# Altium footprint library HgLib.PcbLib: 86 footprints (part 6 of 6)
Each footprint in its own frame and in the unit in brackets; x right, y up, seen from the top. Pads: shape width x height; smd on the part's side, far side on the other; paste and mask are expansions set on the pad; w line width, h text height; cw(c..) or ccw(c..) is an arc to the next point about the centre after c.
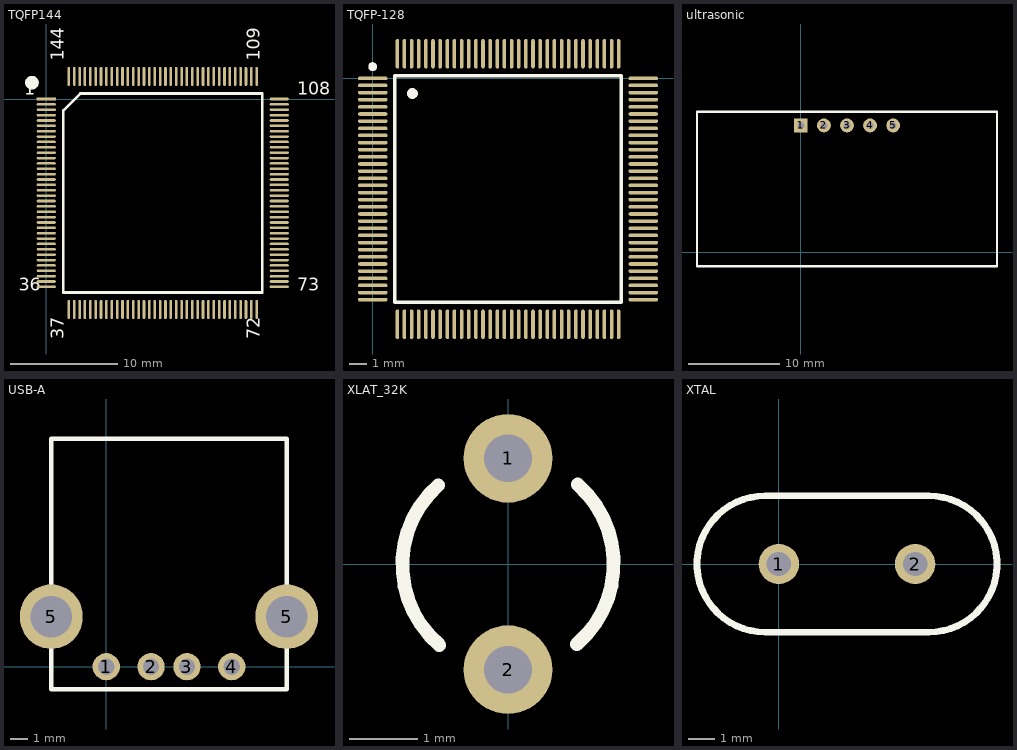
[diagram p5: the footprints below, top view; thin cyan lines are the x and y axes]

## TQFP144 [mil]
pads (144):
  rect 70x9.5 smd: 1(0,0)
  oval 70x9.5 smd: 2(0,-19.68) 3(0,-39.37) 4(0,-59.05) 5(0,-78.74) 6(0,-98.42) 7(0,-118.11) 8(0,-137.79) 9(0,-157.48) 10(0,-177.16) 11(0,-196.85) 12(0,-216.53) 13(0,-236.22) 14(0,-255.9) 15(0,-275.59) 16(0,-295.27) 17(0,-314.96) 18(0,-334.64) 19(0,-354.33) 20(0,-374.01) 21(0,-393.7) 22(0,-413.38) 23(0,-433.07) 24(0,-452.75) 25(0,-472.44) 26(0,-492.12) 27(0,-511.81) 28(0,-531.49) 29(0,-551.18) 30(0,-570.86) 31(0,-590.55) 32(0,-610.23) 33(0,-629.92) 34(0,-649.6) 35(0,-669.29) 36(0,-688.97) 73(854.33,-688.97) 74(854.33,-669.29) 75(854.33,-649.6) 76(854.33,-629.92) 77(854.33,-610.23) 78(854.33,-590.55) 79(854.33,-570.86) 80(854.33,-551.18) 81(854.33,-531.49) 82(854.33,-511.81) 83(854.33,-492.12) 84(854.33,-472.44) 85(854.33,-452.75) 86(854.33,-433.07) 87(854.33,-413.38) 88(854.33,-393.7) 89(854.33,-374.01) 90(854.33,-354.33) 91(854.33,-334.64) 92(854.33,-314.96) 93(854.33,-295.27) 94(854.33,-275.59) 95(854.33,-255.9) 96(854.33,-236.22) 97(854.33,-216.53) 98(854.33,-196.85) 99(854.33,-177.16) 100(854.33,-157.48) 101(854.33,-137.79) 102(854.33,-118.11) 103(854.33,-98.42) 104(854.33,-78.74) 105(854.33,-59.05) 106(854.33,-39.37) 107(854.33,-19.68) 108(854.33,0)
  oval 9.5x70 smd: 37(82.68,-771.65) 38(102.36,-771.65) 39(122.05,-771.65) 40(141.73,-771.65) 41(161.42,-771.65) 42(181.1,-771.65) 43(200.79,-771.65) 44(220.47,-771.65) 45(240.16,-771.65) 46(259.84,-771.65) 47(279.53,-771.65) 48(299.21,-771.65) 49(318.9,-771.65) 50(338.58,-771.65) 51(358.27,-771.65) 52(377.95,-771.65) 53(397.64,-771.65) 54(417.32,-771.65) 55(437.01,-771.65) 56(456.69,-771.65) 57(476.38,-771.65) 58(496.06,-771.65) 59(515.75,-771.65) 60(535.43,-771.65) 61(555.12,-771.65) 62(574.8,-771.65) 63(594.49,-771.65) 64(614.17,-771.65) 65(633.86,-771.65) 66(653.54,-771.65) 67(673.23,-771.65) 68(692.91,-771.65) 69(712.6,-771.65) 70(732.28,-771.65) 71(751.97,-771.65) 72(771.65,-771.65) 109(771.65,82.68) 110(751.97,82.68) 111(732.28,82.68) 112(712.6,82.68) 113(692.91,82.68) 114(673.23,82.68) 115(653.54,82.68) 116(633.86,82.68) 117(614.17,82.68) 118(594.49,82.68) 119(574.8,82.68) 120(555.12,82.68) 121(535.43,82.68) 122(515.75,82.68) 123(496.06,82.68) 124(476.38,82.68) 125(456.69,82.68) 126(437.01,82.68) 127(417.32,82.68) 128(397.64,82.68) 129(377.95,82.68) 130(358.27,82.68) 131(338.58,82.68) 132(318.9,82.68) 133(299.21,82.68) 134(279.53,82.68) 135(259.84,82.68) 136(240.16,82.68) 137(220.47,82.68) 138(200.79,82.68) 139(181.1,82.68) 140(161.42,82.68) 141(141.73,82.68) 142(122.05,82.68) 143(102.36,82.68) 144(82.68,82.68)
Top Overlay:
  circle w25: c-52.5,60 r12.5
  lines w10: 62.4,-709.25 62.4,-42.13 124.8,20.28 791.93,20.28 791.93,-709.25 62.4,-709.25
  text "72" at 800,-880 h80
  text "1" at -80,0 h80
  text "36" at -100,-720 h80
  text "37" at 80,-880 h80
  text "73" at 920,-720 h80
  text "108" at 920,0 h80
  text "109" at 800,140 h80
  text "144" at 80,140 h80

## TQFP-128 [mm] "TSQFP, 128-Leads, Body 16.0x16.0mm (max), Pitch 0.40mm, IPC Medium Density"
height 1.6
pads (128):
  oval 1.65x0.2 smd mask+0.051: 1(0,0) 2(0,-0.4) 3(0,-0.8) 4(0,-1.2) 5(0,-1.6) 6(0,-2) 7(0,-2.4) 8(0,-2.8) 9(0,-3.2) 10(0,-3.6) 11(0,-4) 12(0,-4.4) 13(0,-4.8) 14(0,-5.2) 15(0,-5.6) 16(0,-6) 17(0,-6.4) 18(0,-6.8) 19(0,-7.2) 20(0,-7.6) 21(0,-8) 22(0,-8.4) 23(0,-8.8) 24(0,-9.2) 25(0,-9.6) 26(0,-10) 27(0,-10.4) 28(0,-10.8) 29(0,-11.2) 30(0,-11.6) 31(0,-12) 32(0,-12.4) 65(15.15,-12.4) 66(15.15,-12) 67(15.15,-11.6) 68(15.15,-11.2) 69(15.15,-10.8) 70(15.15,-10.4) 71(15.15,-10) 72(15.15,-9.6) 73(15.15,-9.2) 74(15.15,-8.8) 75(15.15,-8.4) 76(15.15,-8) 77(15.15,-7.6) 78(15.15,-7.2) 79(15.15,-6.8) 80(15.15,-6.4) 81(15.15,-6) 82(15.15,-5.6) 83(15.15,-5.2) 84(15.15,-4.8) 85(15.15,-4.4) 86(15.15,-4) 87(15.15,-3.6) 88(15.15,-3.2) 89(15.15,-2.8) 90(15.15,-2.4) 91(15.15,-2) 92(15.15,-1.6) 93(15.15,-1.2) 94(15.15,-0.8) 95(15.15,-0.4) 96(15.15,0)
  oval 0.2x1.65 smd mask+0.051: 33(1.375,-13.775) 34(1.775,-13.775) 35(2.175,-13.775) 36(2.575,-13.775) 37(2.975,-13.775) 38(3.375,-13.775) 39(3.775,-13.775) 40(4.175,-13.775) 41(4.575,-13.775) 42(4.975,-13.775) 43(5.375,-13.775) 44(5.775,-13.775) 45(6.175,-13.775) 46(6.575,-13.775) 47(6.975,-13.775) 48(7.375,-13.775) 49(7.775,-13.775) 50(8.175,-13.775) 51(8.575,-13.775) 52(8.975,-13.775) 53(9.375,-13.775) 54(9.775,-13.775) 55(10.175,-13.775) 56(10.575,-13.775) 57(10.975,-13.775) 58(11.375,-13.775) 59(11.775,-13.775) 60(12.175,-13.775) 61(12.575,-13.775) 62(12.975,-13.775) 63(13.375,-13.775) 64(13.775,-13.775) 97(13.775,1.375) 98(13.375,1.375) 99(12.975,1.375) 100(12.575,1.375) 101(12.175,1.375) 102(11.775,1.375) 103(11.375,1.375) 104(10.975,1.375) 105(10.575,1.375) 106(10.175,1.375) 107(9.775,1.375) 108(9.375,1.375) 109(8.975,1.375) 110(8.575,1.375) 111(8.175,1.375) 112(7.775,1.375) 113(7.375,1.375) 114(6.975,1.375) 115(6.575,1.375) 116(6.175,1.375) 117(5.775,1.375) 118(5.375,1.375) 119(4.975,1.375) 120(4.575,1.375) 121(4.175,1.375) 122(3.775,1.375) 123(3.375,1.375) 124(2.975,1.375) 125(2.575,1.375) 126(2.175,1.375) 127(1.775,1.375) 128(1.375,1.375)
Top Overlay:
  circle w0.3: c2.225,-0.85 r0.15
  circle w0.25: c0,0.65 r0.125
  lines w0.2: 1.225,-12.55 13.925,-12.55 13.925,0.15 1.225,0.15 1.225,-12.55

## ultrasonic [mil]
pads (5):
  rect 60x60 / inner round 0 / far side round 0 hole 30: 1(0,550)
  round 60 / inner round 0 / far side round 0 hole 30: 2(100,550) 3(200,550) 4(300,550) 5(400,550)
Top Overlay:
  lines w10: -449.61,-60 849.61,-60 849.61,609.29 -449.61,609.29 -449.61,-60

## USB-A [mm]
pads (6):
  round 1.524 / inner round 0 / far side round 0 hole 0.9: 1(0,0) 2(2.5,0) 3(4.5,0) 4(7,0)
  oval 3.5x3.6 / inner round 0 / far side round 0 hole 2.3: 5(-3.07,2.791) 5(10.07,2.791)
Top Overlay:
  lines w0.254: -3.07,-1.27 10.07,-1.27 10.07,12.73 -3.07,12.73 -3.07,-1.27

## XLAT_32K [mm] "Crystal, Thru-Hole; 2 Leads; Body 3.1 x 8.2 mm (Dia.xH)"
height 8.2
pads (2):
  round 1.3 hole 0.7: 1(0,1.55) 2(0,-1.55)
Top Overlay:
  lines w0.2: -1.022,1.155 ccw(c0,-0.01) -1.006,-1.189 ; 1.006,-1.179 ccw(c0,0) 1.022,1.165

## XTAL [mm] "pad"
pads (2):
  round 1.5 / inner round 0 / far side round 0 hole 0.9: 1(0,0) 2(5.08,0)
Top Overlay:
  lines w0.254: -0.508,-2.54 cw(c-0.508,0) -0.508,2.54 5.588,2.54 cw(c5.588,0) 5.588,-2.54 -0.508,-2.54